# Altium schematic symbol library spx520.SchLib: 1 symbol
Pins are listed as number, name and electrical type; pins without a type are passive.

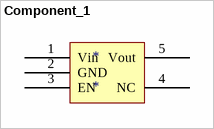
[diagram p0: symbol Component_1]

## Component_1
designator *
pins: 1 Vin, 2 GND, 3 EN, 4 NC, 5 Vout